# Altium schematic symbol library ISP.SchLib: 1 symbol
Pins are listed as number, name and electrical type; pins without a type are passive.

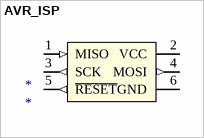
[diagram p0: symbol AVR_ISP]

## AVR_ISP
designator *
footprint HEADER6
pins: 1 MISO (in), 2 VCC (power), 3 SCK (out), 4 MOSI (out), 5 ~{RESET} (out), 6 GND (power)